# Altium footprint library Резонаторы.PcbLib: 14 footprints
Each footprint in its own frame and in the unit in brackets; x right, y up, seen from the top. Pads: shape width x height; smd on the part's side, far side on the other; paste and mask are expansions set on the pad; w line width, h text height; cw(c..) or ccw(c..) is an arc to the next point about the centre after c.
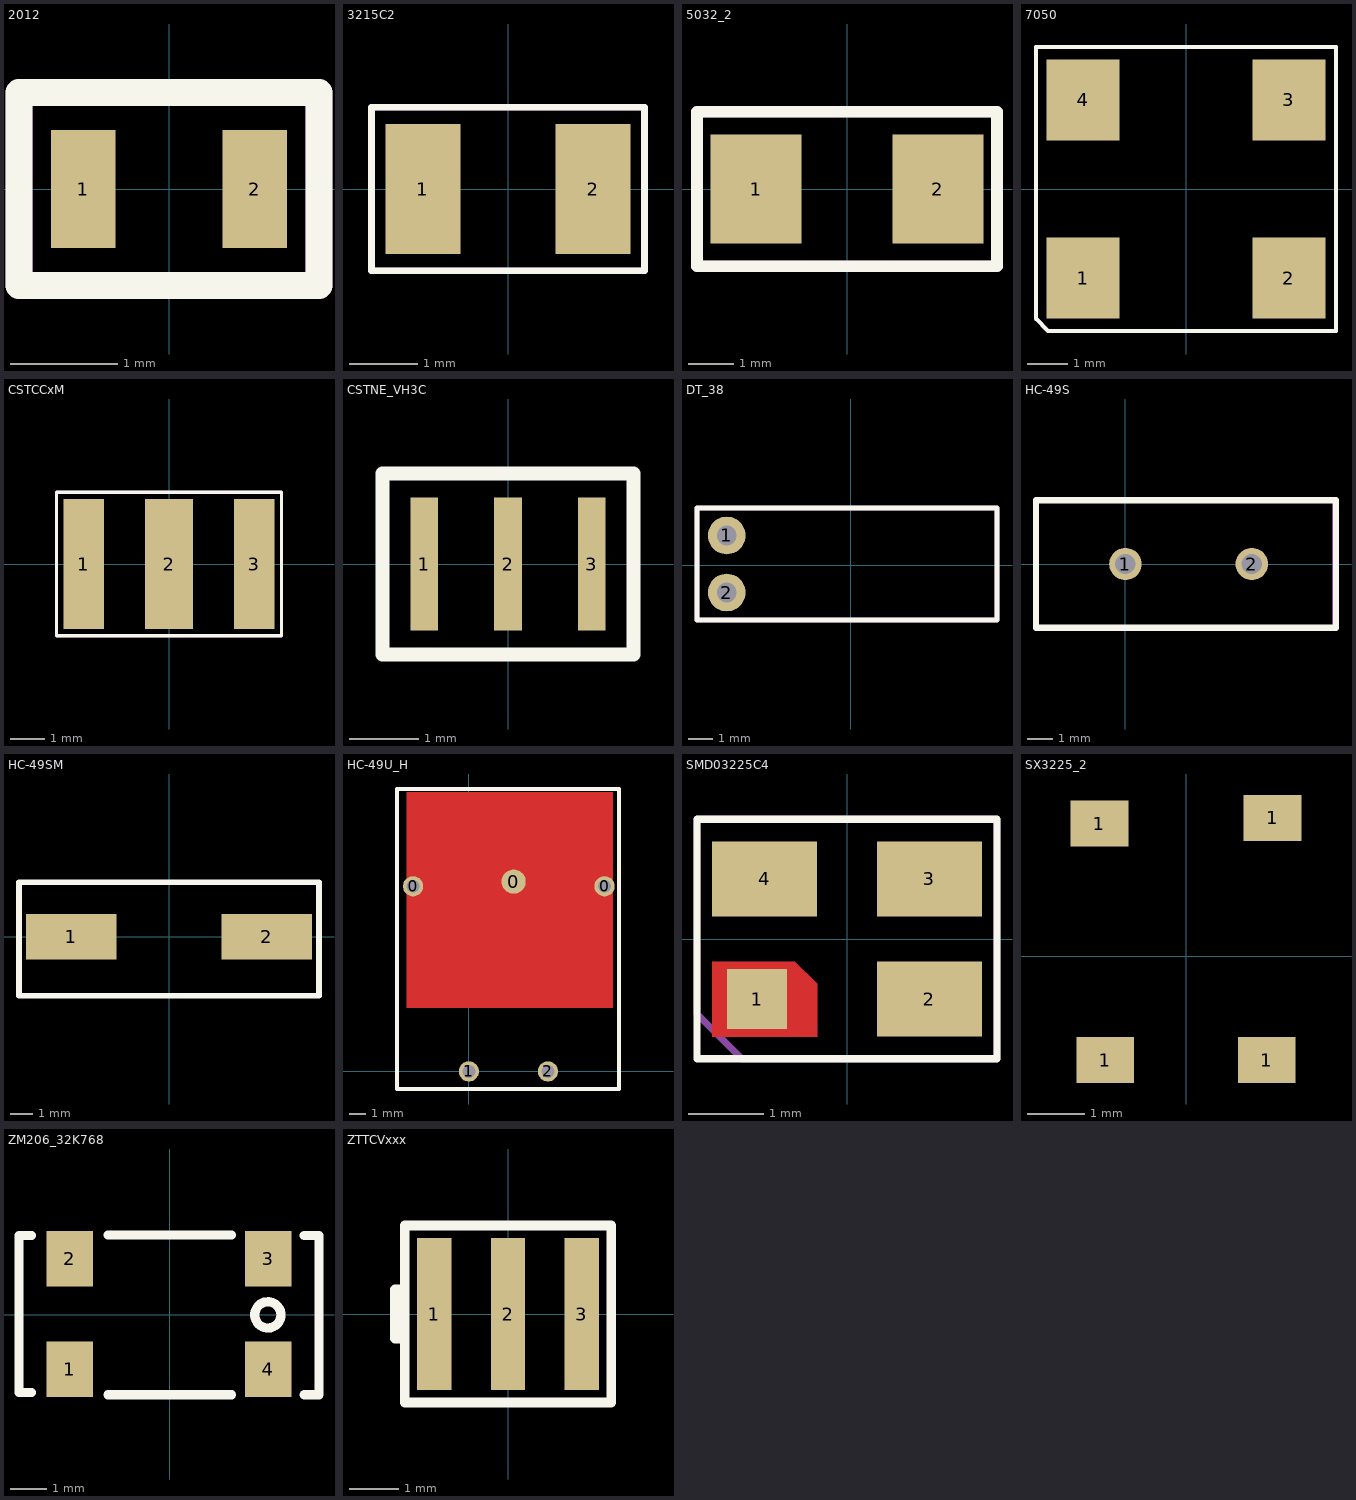
[diagram p0: the footprints below, top view; thin cyan lines are the x and y axes]

## 2012 [mm]
pads (2):
  rect 0.6x1.1 smd: 1(-0.8,0) 2(0.8,0)
Top Overlay:
  lines w0.254: -1.4,-0.9 -1.4,0.9 1.4,0.9 1.4,-0.9 -1.4,-0.9
Top_assy:
  lines w0.254: -1.4,-0.9 1.4,-0.9 1.4,0.9 -1.4,0.9 -1.4,-0.9
  text ".Designator" at -2.8,-0.5 h1.52
3D body "crystal_rtf2012.stp": height 0.6, standoff -0.01, extent -1,-0.6 1,0.6
3D body: height 7.81, standoff -7.26, extent -0.7,-1 -0.7,-1
3D body: height 7.81, standoff -7.26, extent 0,0 0,0

## 3215C2 [mm]
pads (2):
  rect 1.1x1.9 smd: 1(-1.25,0) 2(1.25,0)
Top Overlay:
  lines w0.1: -2,-1.2 -2,1.2 2,1.2 2,-1.2 -2,-1.2
Top_assy:
  lines w0.1: -2,-1.2 2,-1.2 2,1.2 -2,1.2 -2,-1.2
  text ".Designator" at -0.4,-0.2 h1.52
3D body "crystal-3215C2.step": height 0.8, standoff 0, extent -1.6,-0.75 1.6,0.75

## 5032_2 [mm]
pads (2):
  rect 2x2.4 smd: 1(-2,0) 2(2,0)
Top Overlay:
  lines w0.254: -3.3,-1.7 3.3,-1.7 3.3,1.7 -3.3,1.7 -3.3,-1.7
Top_assy:
  lines w0.254: -3.3,-1.7 -3.3,1.7 3.3,1.7 3.3,-1.7 -3.3,-1.7
  text ".Designator" at -2.7,-0.5 h1.52
3D body: height 7.81, standoff -7.26, extent 0,0 0,0
3D body: height 7.81, standoff -7.26, extent -0.7,-1 -0.7,-1
3D body "User Library-5032_2.step": height 1.2, standoff -0.01, extent -2.4,-1.6 2.6,1.6

## 7050 [mm]
pads (4):
  rect 1.8x2 smd: 1(-2.54,-2.2) 2(2.54,-2.2) 3(2.54,2.2) 4(-2.54,2.2)
Top Overlay:
  lines w0.1: -3.7,-3.2 -3.4,-3.5 3.7,-3.5 3.7,3.5 -3.7,3.5 -3.7,-3.2
Top_assy:
  lines w0.1: -3.7,-3.2 -3.4,-3.5 3.7,-3.5 3.7,3.5 -3.7,3.5 -3.7,-3.2
  text ".Designator" at -1.8,-0.4 h1.52
3D body "SG_7050.step": height 1.4, standoff 0, extent -3.5,-2.5 3.5,2.5

## CSTCCxM [mm]
pads (3):
  rect 1.2x3.8 smd: 1(-2.5,0) 3(2.5,0)
  rect 1.4x3.8 smd: 2(0,0)
Top Overlay:
  lines w0.1: -3.3,-2.1 -3.3,2.1 3.3,2.1 3.3,-2.1 -3.3,-2.1
Top_assy:
  lines w0.1: -3.3,-2.1 3.3,-2.1 3.3,2.1 -3.3,2.1 -3.3,-2.1
  text ".Designator" at -4.4,-0.2 h1.52

## CSTNE_VH3C [mm]
pads (3):
  rect 0.4x1.9 smd: 1(-1.2,0) 2(0,0) 3(1.2,0)
Top Overlay:
  lines w0.2: -1.8,-1.3 1.8,-1.3 1.8,1.3 -1.8,1.3 -1.8,-1.3

## DT_38 [mm]
pads (2):
  round 1.524 hole 0.8: 1(-5,1.2) 2(-5,-1.1)
Top Overlay:
  lines w0.2: -6.2,-2.2 5.9,-2.2 5.9,2.3 -6.2,2.3 -6.2,-2.2
Top_assy:
  lines w0.2: -6.2,-2.2 -6.2,2.3 5.9,2.3 5.9,-2.2 -6.2,-2.2
  text ".Designator" at -2.6,0.1 h1.52
3D body "DT-38.STEP": height 3, standoff -0.45, extent -5.208,-1.4 5.808,1.6

## HC-49S [mm]
pads (2):
  round 1.27 hole 0.8: 1(0,0) 2(4.953,0)
Top Overlay:
  lines w0.254: -3.5,-2.5 8.25,-2.5 8.25,2.5 -3.5,2.5 -3.5,-2.5
Top_assy:
  lines w0.2: -3.5,-2.5 8.2,-2.5 8.2,2.5 -3.5,2.5 -3.5,-2.5
  text ".Designator" at -0.7,-0.3 h1.52
3D body "Rezonator-HC-49us.STEP": height 3.5, standoff -3, extent -3.337,-2.325 8.163,2.325

## HC-49SM [mm]
pads (2):
  rect 4x2 smd: 1(-4.3,0) 2(4.3,0)
Top Overlay:
  lines w0.254: -6.6,-2.6 6.6,-2.6 6.6,2.4 -6.6,2.4 -6.6,-2.6
Top_assy:
  lines w0.2: -6.6,-2.6 6.6,-2.6 6.6,2.4 -6.6,2.4 -6.6,-2.6
  text ".Designator" at -3.1,-0.4 h1.52
3D body "HC49US_SMD.STEP": height 4.2, standoff 0, extent -6.35,-2.45 6.35,2.25

## HC-49U_H [mm]
pads (5):
  round 1.27 hole 0.8: 0(-3.5,11.6) 0(8.5,11.6) 1(0,0) 2(4.953,0)
  round 1.524 smd: 0(2.8,11.9)
Top Layer:
  region: -3.9,4 -3.9,17.5 9,17.5 9,4
Top Overlay:
  lines w0.254: -4.5,-1.1 9.4,-1.1 9.4,17.7 -4.5,17.7 -4.5,-1.1
Top_assy:
  lines w0.2: -4.5,-1.1 9.4,-1.1 9.4,17.7 -4.5,17.7 -4.5,-1.1
  text ".Designator" at -0.7,7 h1.52
3D body "HC_49U_H.step": height 4.75, standoff -3.5, extent -3.25,-0.25 8.25,17.3

## SMD03225C4 [mm]
pads (4):
  rect 0.8x0.8 smd: 1(-1.2,-0.8)
  rect 1.4x1 smd: 2(1.1,-0.8) 3(1.1,0.8) 4(-1.1,0.8)
Top Layer:
  region: -0.4,-1.3 -1.8,-1.3 -1.8,-0.3 -0.7,-0.3 -0.4,-0.6
Top Overlay:
  lines w0.1: -2,-1.6 -2,1.6 2,1.6 2,-1.6 -2,-1.6
Top_assy:
  lines w0.1: -2,-1 -2,1.6 2,1.6 2,-1.6 -1.4,-1.6 -2,-1
  text ".Designator" at -2.8,-0.4 h1.52
3D body "3225.step": height 0.61, standoff 0, extent -1.6,-1.25 1.6,1.25

## SX3225_2 [mm]
pads (4):
  rect 1x0.8 smd: 1(-1.5,2.3) 1(-1.4,-1.8) 1(1.4,-1.8) 1(1.5,2.4)
3D body "SX3225_2.step": height 0.81, standoff 0, extent -1.7,-1.05 1.5,1.45

## ZM206_32K768 [mm]
pads (4):
  rect 1.27x1.524 smd: 1(-2.75,-1.5) 2(-2.75,1.548) 3(2.711,1.548) 4(2.711,-1.5)
Top Overlay:
  circle w0.254: c2.7,0 r0.361
  lines w0.254: -3.8,-2.135 -4.147,-2.135 -4.147,2.183 -3.8,2.183 ; -1.7,-2.2 1.7,-2.2 ; -1.7,2.2 1.7,2.2 ; 3.7,-2.2 4.108,-2.2 4.108,2.183 3.7,2.183
3D body "ZM206_32k768MHz.STEP": height 2.43, standoff -0.1, extent -4.02,-1.871 3.98,1.929

## ZTTCVxxx [mm]
pads (3):
  rect 0.7x3.1 smd: 1(-1.5,0) 2(0,0) 3(1.5,0)
Top Overlay:
  lines w0.2: -2.1,-0.5 -2.3,-0.5 -2.3,0.5 -2.1,0.5 ; -2.1,-1.8 2.1,-1.8 2.1,1.8 -2.1,1.8 -2.1,-1.8